# EAGLE library part BMA253 (library Sensor)
ACCEL 2-16G I2C/SPI 12LGA Manufacturer's datasheet <https://ae-bst.resource.bosch.com/media/_tech/media/datasheets/BST-BMA253-DS000.pdf>
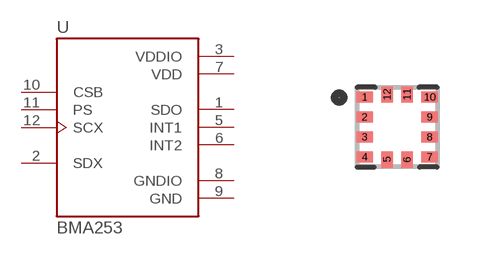
[diagram p30: symbol with the pads of LGA12; footprint LGA12]

Designator prefix U

## BMA253 (CREATED_BY: PCBLayout.com; DIGIKEY_PARTNO: 828-1071-1-ND; MANUFACTURER: Bosch Sensortec; MPN: BMA253; PACKAGE: LGA-12)  [LGA12]
1  SDO  out
2  SDX
3  VDDIO  pwr
5  INT1  out
6  INT2  out
7  VDD  pwr
8  GNDIO  pwr
9  GND  pwr
10  CSB  in
11  PS  in
12  SCX  in

## Footprint LGA12 (pad centres in mm)
smd 0.41 x 0.28: 1 -0.815,0.75; 2 -0.815,0.25; 3 -0.815,-0.25; 4 -0.815,-0.75; 7 0.815,-0.75; 8 0.815,-0.25; 9 0.815,0.25; 10 0.815,0.75
smd 0.28 x 0.41: 5 -0.25,-0.815; 6 0.25,-0.815; 11 0.25,0.815; 12 -0.25,0.815